# Altium schematic symbol library Schlib1.SchLib: 1 symbol
Pins are listed as number, name and electrical type; pins without a type are passive.

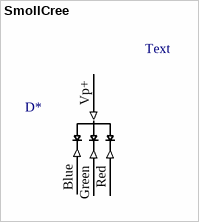
[diagram p0: symbol SmollCree]

## SmollCree
designator D*
footprint SmollLedCree (CLMVC-FKA)
pins: Blue (in), Green (in), Red (in), Vp+ (in)
text: Text